# EAGLE library part STM32F446RET6U (library HEXABITZ_ICs)
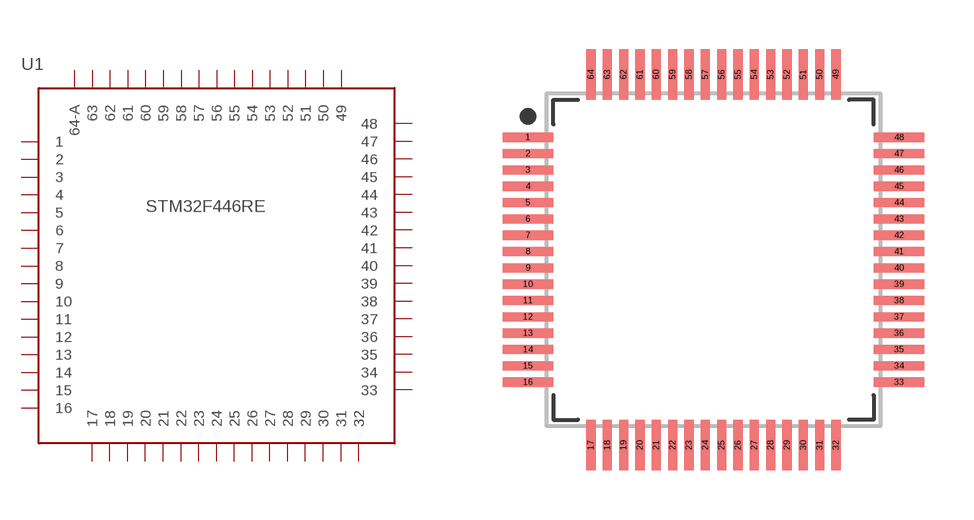
[diagram p26: symbol with the pads of QFP50P1200X1200X160-64; footprint QFP50P1200X1200X160-64]

Designator prefix -

## STM32F446RET6U (AVAILABILITY: Unavailable; DESCRIPTION: 32 Bit Microcontroller, High Performance, ARM Cortex-M4, 180 MHz, 512 KB, 128 KB, 64, LQFP; MF: STMicroelectronics; MP: STM32F446RET6U; PACKAGE: LQFP-64 STMicroelectronics; PRICE: None)  [QFP50P1200X1200X160-64]
1  1  pas
2  2  pas
3  3  pas
4  4  pas
5  5  pas
6  6  pas
7  7  pas
8  8  pas
9  9  pas
10  10  pas
11  11  pas
12  12  pas
13  13  pas
14  14  pas
15  15  pas
16  16  pas
17  17  pas
18  18  pas
19  19  pas
20  20  pas
21  21  pas
22  22  pas
23  23  pas
24  24  pas
25  25  pas
26  26  pas
27  27  pas
28  28  pas
29  29  pas
30  30  pas
31  31  pas
32  32  pas
33  33  pas
34  34  pas
35  35  pas
36  36  pas
37  37  pas
38  38  pas
39  39  pas
40  40  pas
41  41  pas
42  42  pas
43  43  pas
44  44  pas
45  45  pas
46  46  pas
47  47  pas
48  48  pas
49  49  pas
50  50  pas
51  51  pas
52  52  pas
53  53  pas
54  54  pas
55  55  pas
56  56  pas
57  57  pas
58  58  pas
59  59  pas
60  60  pas
61  61  pas
62  62  pas
63  63  pas
64  64-A  pas

## Footprint QFP50P1200X1200X160-64 (pad centres in mm)
64-QFP, 0.50 mm pitch, 12.00 mm span, 10.00 X 10.00 X 1.60 mm body 64-pin QFP package with 0.50 mm pitch, 12.00 mm lead span1 X 12.00 mm lead span2 with body size 10.00 X 10.00 X 1.60 mm
smd 1.559 x 0.28: 1 -5.678,3.75; 2 -5.678,3.25; 3 -5.678,2.75; 4 -5.678,2.25; 5 -5.678,1.75; 6 -5.678,1.25; 7 -5.678,0.75; 8 -5.678,0.25; 9 -5.678,-0.25; 10 -5.678,-0.75; 11 -5.678,-1.25; 12 -5.678,-1.75; 13 -5.678,-2.25; 14 -5.678,-2.75; 15 -5.678,-3.25; 16 -5.678,-3.75; 33 5.678,-3.75; 34 5.678,-3.25; 35 5.678,-2.75; 36 5.678,-2.25; 37 5.678,-1.75; 38 5.678,-1.25; 39 5.678,-0.75; 40 5.678,-0.25; 41 5.678,0.25; 42 5.678,0.75; 43 5.678,1.25; 44 5.678,1.75; 45 5.678,2.25; 46 5.678,2.75; 47 5.678,3.25; 48 5.678,3.75
smd 0.28 x 1.559: 17 -3.75,-5.678; 18 -3.25,-5.678; 19 -2.75,-5.678; 20 -2.25,-5.678; 21 -1.75,-5.678; 22 -1.25,-5.678; 23 -0.75,-5.678; 24 -0.25,-5.678; 25 0.25,-5.678; 26 0.75,-5.678; 27 1.25,-5.678; 28 1.75,-5.678; 29 2.25,-5.678; 30 2.75,-5.678; 31 3.25,-5.678; 32 3.75,-5.678; 49 3.75,5.678; 50 3.25,5.678; 51 2.75,5.678; 52 2.25,5.678; 53 1.75,5.678; 54 1.25,5.678; 55 0.75,5.678; 56 0.25,5.678; 57 -0.25,5.678; 58 -0.75,5.678; 59 -1.25,5.678; 60 -1.75,5.678; 61 -2.25,5.678; 62 -2.75,5.678; 63 -3.25,5.678; 64 -3.75,5.678